# Altium schematic symbol library MCU.SchLib: 5 symbols
Pins are listed as number, name and electrical type; pins without a type are passive.

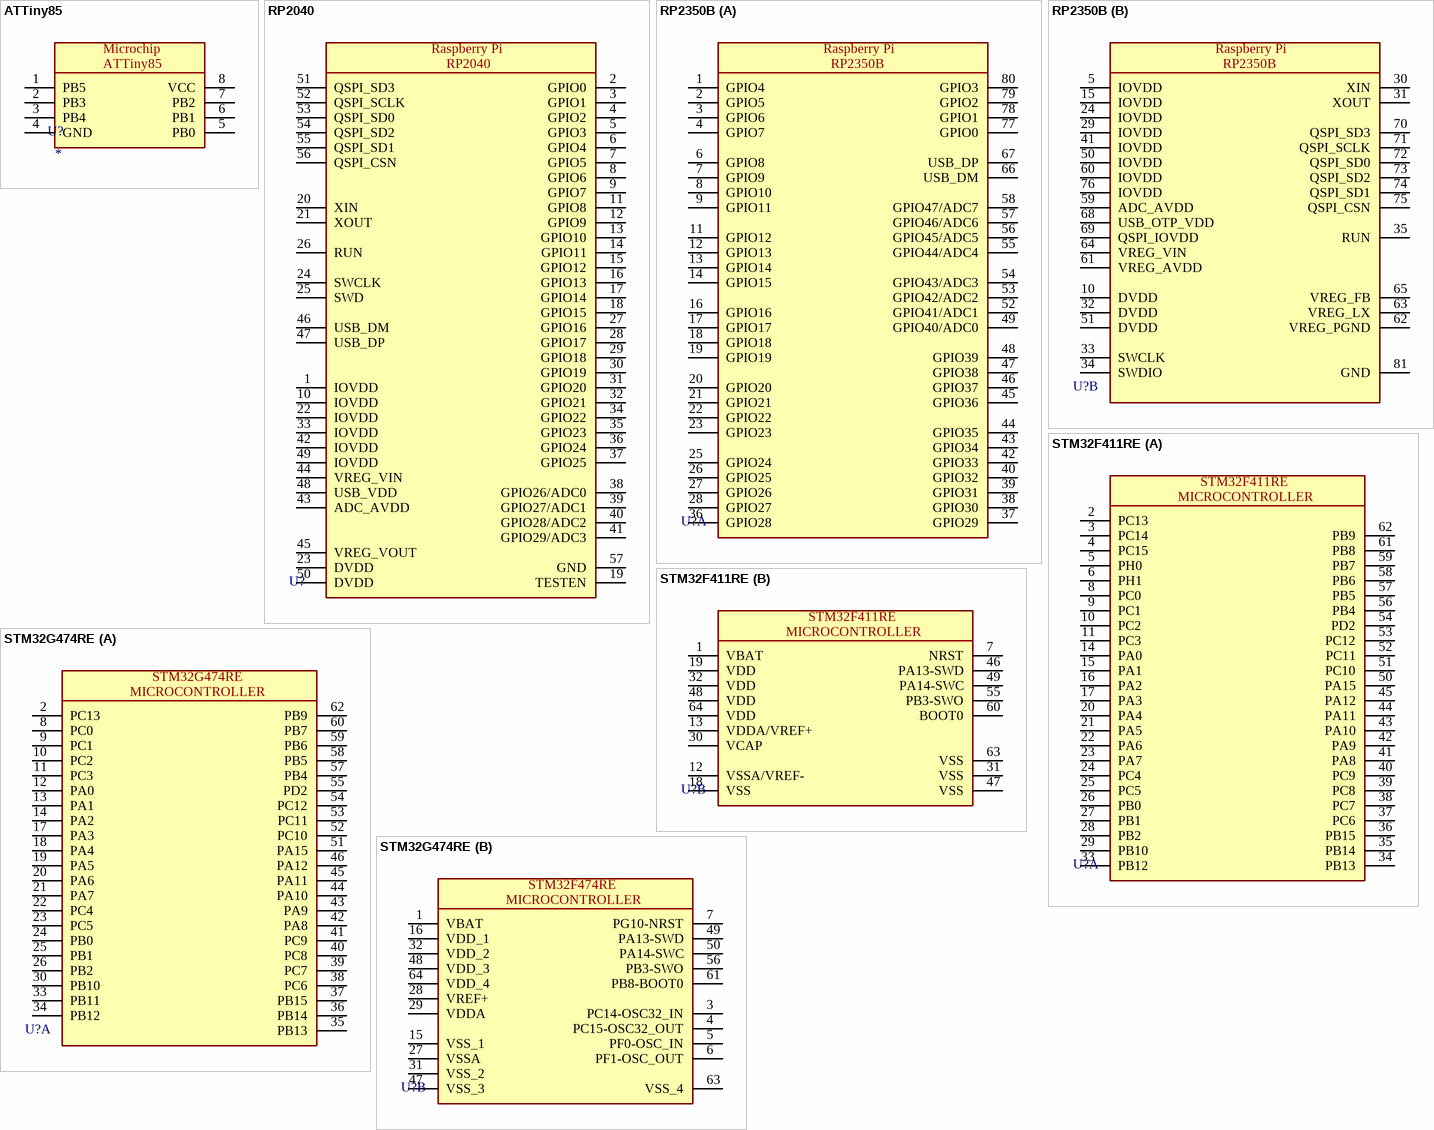
[diagram p0: symbols ATTiny85 to STM32G474RE]

## ATTiny85
designator U?
MCU 8-bit AVR RISC 8KB Flash 3.3V/5V 8-Pin PDIP W Tube / IC MCU 8BIT 8KB FLASH 8DIP; Manufacturer 1: Microchip; Supplier 1: *; Supplier Part Number 1: *; Value: *; Package: PDIP 8; Manufacturer Part Number 1: *
footprint DIP8
pins: 1 PB5, 2 PB3, 3 PB4, 4 GND, 5 PB0, 6 PB1, 7 PB2, 8 VCC

## RP2040
designator U?
ARM® Cortex®-M0+ - Microcontroller IC 32-Bit Dual-Core 133MHz External Program Memory 56-QFN (7x7); Manufacturer Part Number 1: RP2040; Manufacturer 1: Raspberry Pi; Package: QFN56; Value: *; Supplier Part Number 1: *; Supplier 1: *
footprint QFN40P700X700X90-57N
pins: 1 IOVDD, 2 GPIO0, 3 GPIO1, 4 GPIO2, 5 GPIO3, 6 GPIO4, 7 GPIO5, 8 GPIO6, 9 GPIO7, 10 IOVDD, 11 GPIO8, 12 GPIO9, 13 GPIO10, 14 GPIO11, 15 GPIO12, 16 GPIO13, 17 GPIO14, 18 GPIO15, 19 TESTEN, 20 XIN, 21 XOUT, 22 IOVDD, 23 DVDD, 24 SWCLK, 25 SWD, 26 RUN, 27 GPIO16, 28 GPIO17, 29 GPIO18, 30 GPIO19, 31 GPIO20, 32 GPIO21, 33 IOVDD, 34 GPIO22, 35 GPIO23, 36 GPIO24, 37 GPIO25, 38 GPIO26/ADC0, 39 GPIO27/ADC1, 40 GPIO28/ADC2, 41 GPIO29/ADC3, 42 IOVDD, 43 ADC_AVDD, 44 VREG_VIN, 45 VREG_VOUT, 46 USB_DM, 47 USB_DP, 48 USB_VDD, 49 IOVDD, 50 DVDD, 51 QSPI_SD3, 52 QSPI_SCLK, 53 QSPI_SD0, 54 QSPI_SD2, 55 QSPI_SD1, 56 QSPI_CSN, 57 GND

## RP2350B
designator U?
Dual ARM Cortex M33 - Microcontroller IC 32-Bit 80-QFN (10x10); Manufacturer Part Number 1: RP2040; Manufacturer 1: Raspberry Pi; Package: QFN56; Value: *; Supplier Part Number 1: *; Supplier 1: *
footprint QFN40P1000X1000X90_HS-81M (QFN, 80-Leads, Body 10.00x10.00mm, Pitch 0.40mm, Thermal Pad 7.82x7.82mm, IPC Low Density)
part A pins: 1 GPIO4, 2 GPIO5, 3 GPIO6, 4 GPIO7, 6 GPIO8, 7 GPIO9, 8 GPIO10, 9 GPIO11, 11 GPIO12, 12 GPIO13, 13 GPIO14, 14 GPIO15, 16 GPIO16, 17 GPIO17, 18 GPIO18, 19 GPIO19, 20 GPIO20, 21 GPIO21, 22 GPIO22, 23 GPIO23, 25 GPIO24, 26 GPIO25, 27 GPIO26, 28 GPIO27, 36 GPIO28, 37 GPIO29, 38 GPIO30, 39 GPIO31, 40 GPIO32, 42 GPIO33, 43 GPIO34, 44 GPIO35, 45 GPIO36, 46 GPIO37, 47 GPIO38, 48 GPIO39, 49 GPIO40/ADC0, 52 GPIO41/ADC1, 53 GPIO42/ADC2, 54 GPIO43/ADC3, 55 GPIO44/ADC4, 56 GPIO45/ADC5, 57 GPIO46/ADC6, 58 GPIO47/ADC7, 66 USB_DM, 67 USB_DP, 77 GPIO0, 78 GPIO1, 79 GPIO2, 80 GPIO3
part B pins: 5 IOVDD, 10 DVDD, 15 IOVDD, 24 IOVDD, 29 IOVDD, 30 XIN, 31 XOUT, 32 DVDD, 33 SWCLK, 34 SWDIO, 35 RUN, 41 IOVDD, 50 IOVDD, 51 DVDD, 59 ADC_AVDD, 60 IOVDD, 61 VREG_AVDD, 62 VREG_PGND, 63 VREG_LX, 64 VREG_VIN, 65 VREG_FB, 68 USB_OTP_VDD, 69 QSPI_IOVDD, 70 QSPI_SD3, 71 QSPI_SCLK, 72 QSPI_SD0, 73 QSPI_SD2, 74 QSPI_SD1, 75 QSPI_CSN, 76 IOVDD, 81 GND

## STM32F411RE
designator U?
Manufacturer 1: *; Manufacturer Part Number 1: *; Supplier 1: *; Supplier Part Number 1: *; Value: *; Package: *
footprint TSQFP50P1200X1200X160-64L (TSQFP, 64-Leads, Body 10.00x10.00mm, Pitch 0.50mm, IPC High Density)
part A pins: 2 PC13, 3 PC14, 4 PC15, 5 PH0, 6 PH1, 8 PC0, 9 PC1, 10 PC2, 11 PC3, 14 PA0, 15 PA1, 16 PA2, 17 PA3, 20 PA4, 21 PA5, 22 PA6, 23 PA7, 24 PC4, 25 PC5, 26 PB0, 27 PB1, 28 PB2, 29 PB10, 33 PB12, 34 PB13, 35 PB14, 36 PB15, 37 PC6, 38 PC7, 39 PC8, 40 PC9, 41 PA8, 42 PA9, 43 PA10, 44 PA11, 45 PA12, 50 PA15, 51 PC10, 52 PC11, 53 PC12, 54 PD2, 56 PB4, 57 PB5, 58 PB6, 59 PB7, 61 PB8, 62 PB9
part B pins: 1 VBAT, 7 NRST, 12 VSSA/VREF-, 13 VDDA/VREF+, 18 VSS, 19 VDD, 30 VCAP, 31 VSS, 32 VDD, 46 PA13-SWD, 47 VSS, 48 VDD, 49 PA14-SWC, 55 PB3-SWO, 60 BOOT0, 63 VSS, 64 VDD
part A text: MICROCONTROLLER
part B text: MICROCONTROLLER

## STM32G474RE
designator U?
512KB 1.71V~3.6V ARM-M4 128KB 170MHz FLASH 52 LQFP-64(10x10) Microcontrollers (MCU/MPU/SOC) ROHS; Manufacturer 1: STMicroelectronics; Manufacturer Part Number 1: STM32G474RET6; Value: *; Package: LQFP-64(10x10)
footprint TSQFP50P1200X1200X160-64L (TSQFP, 64-Leads, Body 10.00x10.00mm, Pitch 0.50mm, IPC High Density)
part A pins: 2 PC13, 8 PC0, 9 PC1, 10 PC2, 11 PC3, 12 PA0, 13 PA1, 14 PA2, 17 PA3, 18 PA4, 19 PA5, 20 PA6, 21 PA7, 22 PC4, 23 PC5, 24 PB0, 25 PB1, 26 PB2, 30 PB10, 33 PB11, 34 PB12, 35 PB13, 36 PB14, 37 PB15, 38 PC6, 39 PC7, 40 PC8, 41 PC9, 42 PA8, 43 PA9, 44 PA10, 45 PA11, 46 PA12, 51 PA15, 52 PC10, 53 PC11, 54 PC12, 55 PD2, 57 PB4, 58 PB5, 59 PB6, 60 PB7, 62 PB9
part B pins: 1 VBAT, 3 PC14-OSC32_IN, 4 PC15-OSC32_OUT, 5 PF0-OSC_IN, 6 PF1-OSC_OUT, 7 PG10-NRST, 15 VSS_1, 16 VDD_1, 27 VSSA, 28 VREF+, 29 VDDA, 31 VSS_2, 32 VDD_2, 47 VSS_3, 48 VDD_3, 49 PA13-SWD, 50 PA14-SWC, 56 PB3-SWO, 61 PB8-BOOT0, 63 VSS_4, 64 VDD_4
part A text: MICROCONTROLLER
part B text: STM32F474RE; MICROCONTROLLER